# EAGLE library part FXMA2104 (library bschulz)
FXMA2104 - 4 Channel Bidirectional Open Drain Voltage Level Translator Characteristics: Vcc: 1.65 ~ 5.5V (Port A), 1.65 ~ 5.5V (Port B) IQ: 5μA Output Current: 50mA Output Type: Open Drain Operating Temperature: -40°C to 85°C Digikey: FXMA2104UMXCT-ND <https://www.digikey.com/en/products/detail/onsemi/FXMA2104UMX/3163299>
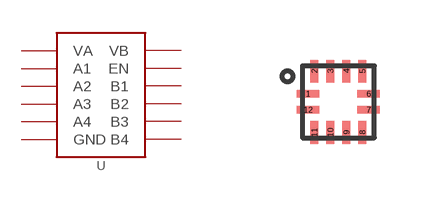
[diagram p161: symbol with the pads of MLP_12; footprint MLP_12]

Designator prefix U

## FXMA2104 (DIGIKEY: FXMA2104UMXCT-ND; DISP: FXMA2104; MF: OnSemi; MPN: FXMA2104UMX)  [MLP_12]
1  VB  pwr
2  VA  pwr
3  A1
4  A2
5  A3
6  A4
7  GND  pwr
8  EN  in
9  B4
10  B3
11  B2
12  B1

## Footprint MLP_12 (pad centres in mm)
MLP, 12 pos, 1.8x1.8mm Datasheet <https://www.onsemi.cn/pdf/datasheet/fxma2104-d.pdf>
smd 0.563 x 0.2: 1 -0.756,0.2; 6 0.756,0.2; 7 0.756,-0.2; 12 -0.756,-0.2
smd 0.2 x 0.563: 2 -0.6,0.768; 3 -0.2,0.768; 4 0.2,0.768; 5 0.6,0.768; 8 0.6,-0.768; 9 0.2,-0.768; 10 -0.2,-0.768; 11 -0.6,-0.768